# EAGLE library part TXB0106PWR (library IGVC-IC)
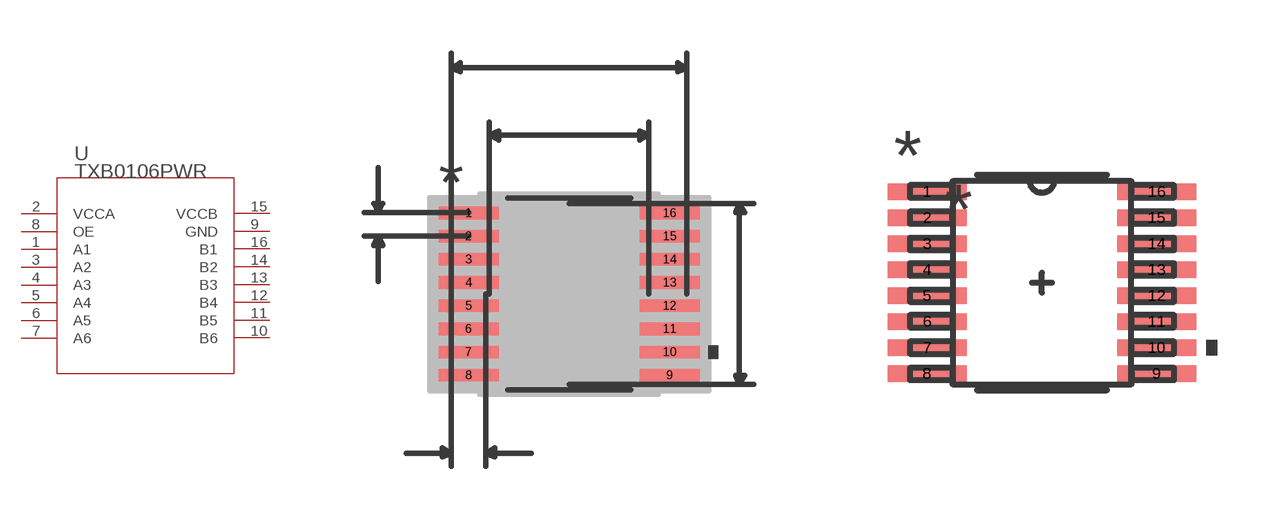
[diagram p2: symbol with the pads of PW16; footprints PW16, PW16-M]

Designator prefix U

## TXB0106PWR (MANUFACTURER_PART_NUMBER: TXB0106PWR; VENDOR: Texas Instruments)  [PW16]
1  A1
2  VCCA  pwr
3  A2
4  A3
5  A4
6  A5
7  A6
8  OE  out
9  GND  pwr
10  B6
11  B5
12  B4
13  B3
14  B2
15  VCCB  pwr
16  B1

## TXB0106PWRPW16-M (MANUFACTURER_PART_NUMBER: TXB0106PWR; VENDOR: Texas Instruments)  [PW16-M]
Pads as for PW16

## TXB0106PWRPW16-L (MANUFACTURER_PART_NUMBER: TXB0106PWR; VENDOR: Texas Instruments)  [PW16-L]
Pads as for PW16

## Footprint PW16 (pad centres in mm)
smd 1.676 x 0.356: 1 -2.819,2.275; 2 -2.819,1.625; 3 -2.819,0.975; 4 -2.819,0.325; 5 -2.819,-0.325; 6 -2.819,-0.975; 7 -2.819,-1.625; 8 -2.819,-2.275; 9 2.819,-2.275; 10 2.819,-1.625; 11 2.819,-0.975; 12 2.819,-0.325; 13 2.819,0.325; 14 2.819,0.975; 15 2.819,1.625; 16 2.819,2.275

## Footprint PW16-M (pad centres in mm)
smd 1.981 x 0.406: 1 -2.87,2.275; 2 -2.87,1.625; 3 -2.87,0.975; 4 -2.87,0.325; 5 -2.87,-0.325; 6 -2.87,-0.975; 7 -2.87,-1.625; 8 -2.87,-2.275; 9 2.87,-2.275; 10 2.87,-1.625; 11 2.87,-0.975; 12 2.87,-0.325; 13 2.87,0.325; 14 2.87,0.975; 15 2.87,1.625; 16 2.87,2.275

## Footprint PW16-L (pad centres in mm)
smd 1.372 x 0.305: 1 -2.769,2.275; 2 -2.769,1.625; 3 -2.769,0.975; 4 -2.769,0.325; 5 -2.769,-0.325; 6 -2.769,-0.975; 7 -2.769,-1.625; 8 -2.769,-2.275; 9 2.769,-2.275; 10 2.769,-1.625; 11 2.769,-0.975; 12 2.769,-0.325; 13 2.769,0.325; 14 2.769,0.975; 15 2.769,1.625; 16 2.769,2.275